# Altium footprint library SOT50P160X78-3N.PcbLib: 1 footprints
Each footprint in its own frame and in the unit in brackets; x right, y up, seen from the top. Pads: shape width x height; smd on the part's side, far side on the other; paste and mask are expansions set on the pad; w line width, h text height; cw(c..) or ccw(c..) is an arc to the next point about the centre after c.
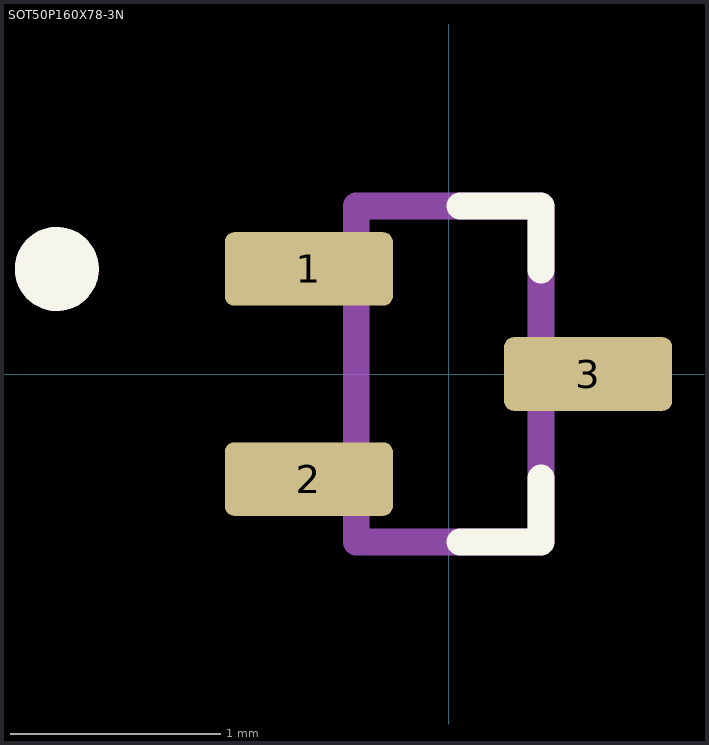
[diagram p0: the footprint, top view; thin cyan lines are the x and y axes]

## SOT50P160X78-3N [mm]
height 0.78
pads (3):
  rrect25% 0.8x0.35 smd: 1(-0.665,0.5) 2(-0.665,-0.5) 3(0.665,0)
Top Overlay:
  circle w0.2: c-1.865,0.5 r0.1
  lines w0.127: 0.055,-0.8 0.44,-0.8 0.44,-0.495 ; 0.055,0.8 0.44,0.8 0.44,0.495
Assembly Top:
  circle w0.2: c-1.865,0.5 r0.1
  lines w0.127: -0.44,-0.8 0.44,-0.8 0.44,0.8 -0.44,0.8 -0.44,-0.8
3D body "MMBT3904 RFG (1).STEP": height 0.91, standoff -0.1, extent -0.861,-0.8 0.798,0.8